# Altium footprint library NSC Audio.PcbLib: 145 footprints (part 1 of 10)
Each footprint in its own frame and in the unit in brackets; x right, y up, seen from the top. Pads: shape width x height; smd on the part's side, far side on the other; paste and mask are expansions set on the pad; w line width, h text height; cw(c..) or ccw(c..) is an arc to the next point about the centre after c.
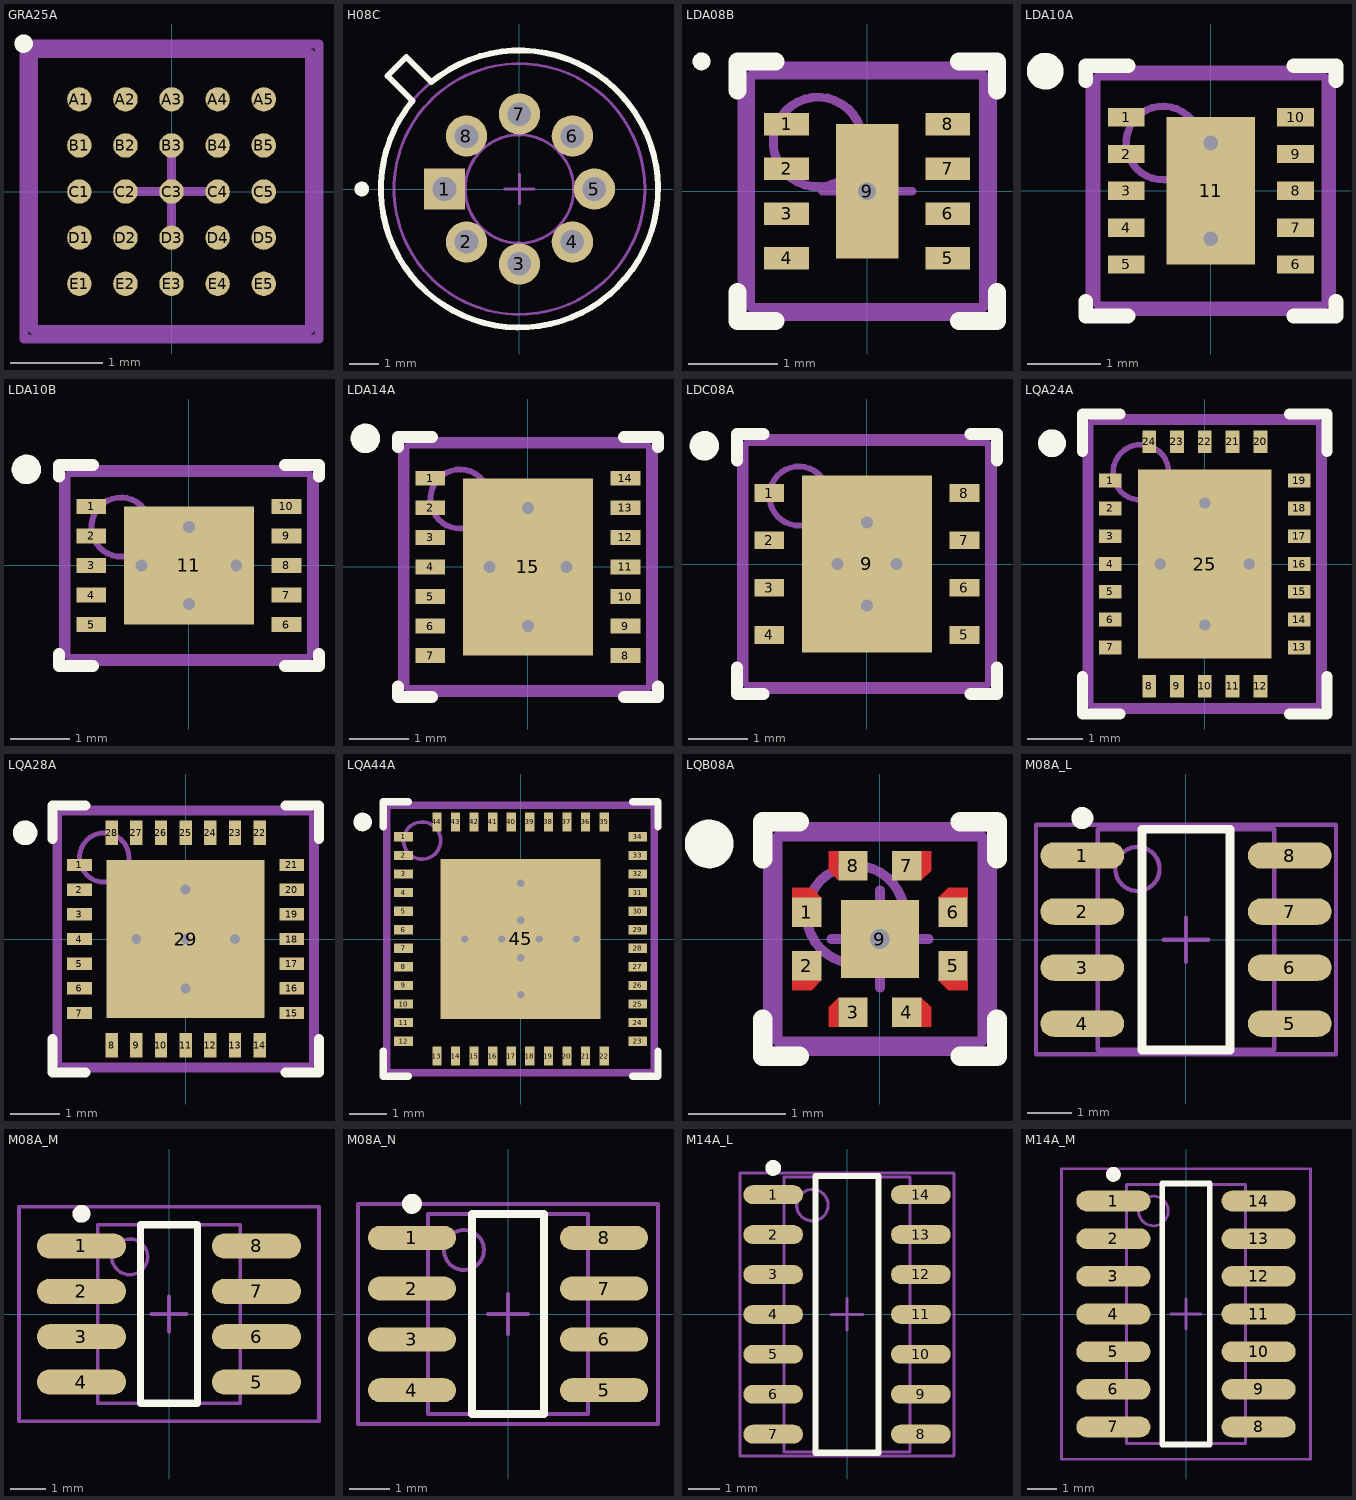
[diagram p0: the footprints below, top view; thin cyan lines are the x and y axes]

## GRA25A [mm] "BGA, 25-Leads, Body 3x3mm, Pitch 0.5mm, NSC Recommended"
height 1.1
pads (25):
  round 0.265 smd paste-0.132 mask+0.05: A1(-1,1) A2(-0.5,1) A3(0,1) A4(0.5,1) A5(1,1) B1(-1,0.5) B2(-0.5,0.5) B3(0,0.5) B4(0.5,0.5) B5(1,0.5) C1(-1,0) C2(-0.5,0) C3(0,0) C4(0.5,0) C5(1,0) D1(-1,-0.5) D2(-0.5,-0.5) D3(0,-0.5) D4(0.5,-0.5) D5(1,-0.5) E1(-1,-1) E2(-0.5,-1) E3(0,-1) E4(0.5,-1) E5(1,-1)
Top Overlay:
  circle w0.1: c-1.605,1.605 r0.05
Top Paste:
  drawing of 225 lines, arcs and shapes, not listed
Mechanical 13:
  lines w0.1: -1.5,-1.5 -1.5,1.5 1.5,1.5 1.5,-1.5 -1.5,-1.5
Mechanical 15:
  lines w0.1: -0.5,0 0.5,0 ; 0,-0.5 0,0.5 ; -1.6,-1.6 -1.6,1.6 1.6,1.6 1.6,-1.6 -1.6,-1.6
3D body: height 1.1, standoff 0, extent -1.5,-1.5 1.5,1.5

## H08C [mm] "Can; 8 Leads; Pin Circle Dia. 5.08 mm; Lead Dia. 0.48 mm (max)"
height 5.56
pads (8):
  rect 1.4x1.4 hole 0.8: 1(-2.54,0)
  round 1.4 hole 0.8: 2(-1.796,-1.796) 3(0,-2.54) 4(1.796,-1.796) 5(2.54,0) 6(1.796,1.796) 7(0,2.54) 8(-1.796,1.796)
Top Overlay:
  circle w0.25: c-5.35,0 r0.125
  lines w0.2: -4.475,3.838 -3.838,4.475 -2.99,3.626 cw(c0,0) -3.626,2.99 -4.475,3.838
Mechanical 13:
  circle w0.1: c0,0 r4.7
  circle w0.1: c0,0 r4.255
  circle w0.1: c0,0 r1.84
Mechanical 15:
  lines w0.1: -0.5,0 0.5,0 ; 0,-0.5 0,0.5
3D body: height 0.38, standoff 0, extent -1.839,-1.839 1.839,1.839
3D body: height 1.91, standoff 0.38, extent -4.699,-4.699 4.699,4.699
3D body: height 5.56, standoff 1.91, extent -4.254,-4.254 4.254,4.254

## LDA08B [mm] "PSON, 8-Leads, Body 2.5x2.5mm, Pitch 0.5mm, NSC Recommended"
height 0.8
pads (9):
  rect 0.5x0.25 smd paste-0.125 mask+0.051: 1(-0.9,0.75) 2(-0.9,0.25) 3(-0.9,-0.25) 4(-0.9,-0.75) 5(0.9,-0.75) 6(0.9,-0.25) 7(0.9,0.25) 8(0.9,0.75)
  rect 0.7x1.5 smd paste-0.35 mask+0.051: 9(0,0)
via 0,0 diameter 0.5 hole 0.2
Top Overlay:
  circle w0.1: c-1.85,1.45 r0.05
  lines w0.2: -1.45,-1.125 -1.45,-1.45 -1.025,-1.45 ; -1.45,1.125 -1.45,1.45 -1.025,1.45 ; 1.025,-1.45 1.45,-1.45 1.45,-1.125 ; 1.025,1.45 1.45,1.45 1.45,1.125
Top Paste:
  rectangle: -0.333,-0.713 0.333,0.713
  rectangle: 0.75,0.625 1.25,0.875
  rectangle: 0.75,0.125 1.25,0.375
  rectangle: 0.75,-0.375 1.25,-0.125
  rectangle: 0.75,-0.875 1.25,-0.625
  region: -0.75,-0.625 -1.25,-0.625 -1.25,-0.875 -0.75,-0.875
  region: -0.75,-0.125 -1.25,-0.125 -1.25,-0.375 -0.75,-0.375
  region: -0.75,0.375 -1.25,0.375 -1.25,0.125 -0.75,0.125
  region: -0.75,0.875 -1.25,0.875 -1.25,0.625 -0.75,0.625
Mechanical 13:
  circle w0.1: c-0.55,0.55 r0.5
  lines w0.1: -1.3,-1.3 -1.3,1.3 1.3,1.3 1.3,-1.3 -1.3,-1.3
Mechanical 15:
  lines w0.1: -0.5,0 0.5,0 ; 0,-0.5 0,0.5 ; -1.4,-1.4 -1.4,1.4 1.4,1.4 1.4,-1.4 -1.4,-1.4
3D body: height 0.8, standoff 0, extent -1.299,-1.299 1.299,1.299

## LDA10A [mm] "PSON, 10-Leads, Body 3x3mm, Pitch 0.5mm, NSC Recommended"
height 0.8
pads (11):
  rect 0.5x0.25 smd paste-0.125 mask+0.051: 1(-1.15,1) 2(-1.15,0.5) 3(-1.15,0) 4(-1.15,-0.5) 5(-1.15,-1) 6(1.15,-1) 7(1.15,-0.5) 8(1.15,0) 9(1.15,0.5) 10(1.15,1)
  rect 1.2x2 smd paste-0.6 mask+0.051: 11(0,0)
via 0,0.65 diameter 0.5 hole 0.2
via 0,-0.65 diameter 0.5 hole 0.2
Top Overlay:
  circle w0.25: c-2.25,1.625 r0.125
  lines w0.2: -1.7,-1.5 -1.7,-1.7 -1.125,-1.7 ; -1.7,1.5 -1.7,1.7 -1.125,1.7 ; 1.125,-1.7 1.7,-1.7 1.7,-1.5 ; 1.125,1.7 1.7,1.7 1.7,1.5
Top Paste:
  rectangle: -0.57,-0.95 0.57,0.95
  rectangle: -1.5,0.875 -1,1.125
  rectangle: -1.5,0.375 -1,0.625
  rectangle: -1.5,-0.125 -1,0.125
  rectangle: -1.5,-0.625 -1,-0.375
  rectangle: -1.5,-1.125 -1,-0.875
  region: 1.5,1.125 1,1.125 1,0.875 1.5,0.875
  region: 1.5,0.625 1,0.625 1,0.375 1.5,0.375
  region: 1.5,0.125 1,0.125 1,-0.125 1.5,-0.125
  region: 1.5,-0.375 1,-0.375 1,-0.625 1.5,-0.625
  region: 1.5,-0.875 1,-0.875 1,-1.125 1.5,-1.125
Mechanical 13:
  circle w0.1: c-0.65,0.65 r0.5
  lines w0.1: -1.55,-1.55 -1.55,1.55 1.55,1.55 1.55,-1.55 -1.55,-1.55
Mechanical 15:
  lines w0.1: -0.5,0 0.5,0 ; 0,-0.5 0,0.5 ; -1.65,-1.65 -1.65,1.65 1.65,1.65 1.65,-1.65 -1.65,-1.65
3D body: height 0.8, standoff 0, extent -1.55,-1.55 1.55,1.55

## LDA10B [mm] "PSON, 10-Leads, Body 3x4mm, Pitch 0.5mm, NSC Recommended"
height 0.8
pads (11):
  rect 0.5x0.25 smd paste-0.125 mask+0.051: 1(-1.65,1) 2(-1.65,0.5) 3(-1.65,0) 4(-1.65,-0.5) 5(-1.65,-1) 6(1.65,-1) 7(1.65,-0.5) 8(1.65,0) 9(1.65,0.5) 10(1.65,1)
  rect 2.2x2 smd paste-1 mask+0.051: 11(0,0)
via 0.8,0 diameter 0.5 hole 0.2
via -0.8,0 diameter 0.5 hole 0.2
via 0,0.65 diameter 0.5 hole 0.2
via 0,-0.65 diameter 0.5 hole 0.2
Top Overlay:
  circle w0.25: c-2.75,1.625 r0.125
  lines w0.2: -2.2,-1.5 -2.2,-1.7 -1.625,-1.7 ; -2.2,1.5 -2.2,1.7 -1.625,1.7 ; 1.625,-1.7 2.2,-1.7 2.2,-1.5 ; 1.625,1.7 2.2,1.7 2.2,1.5
Top Paste:
  region: 2,-0.875 1.5,-0.875 1.5,-1.125 2,-1.125
  region: 2,-0.375 1.5,-0.375 1.5,-0.625 2,-0.625
  region: 2,0.125 1.5,0.125 1.5,-0.125 2,-0.125
  region: 2,0.625 1.5,0.625 1.5,0.375 2,0.375
  region: 2,1.125 1.5,1.125 1.5,0.875 2,0.875
  rectangle: -2,-1.125 -1.5,-0.875
  rectangle: -2,-0.625 -1.5,-0.375
  rectangle: -2,-0.125 -1.5,0.125
  rectangle: -2,0.375 -1.5,0.625
  rectangle: -2,0.875 -1.5,1.125
  rectangle: -0.99,-0.9 0.99,0.9
Mechanical 13:
  circle w0.1: c-1.15,0.65 r0.5
  lines w0.1: -2.05,-1.55 -2.05,1.55 2.05,1.55 2.05,-1.55 -2.05,-1.55
Mechanical 15:
  lines w0.1: -0.5,0 0.5,0 ; 0,-0.5 0,0.5 ; -2.15,-1.65 2.15,-1.65 2.15,1.65 -2.15,1.65 -2.15,-1.65
3D body: height 0.8, standoff 0, extent -2.049,-1.549 2.049,1.549

## LDA14A [mm] "PSON, 14-Leads, Body 4x4mm, Pitch 0.5mm, NSC Recommended"
height 0.8
pads (15):
  rect 0.5x0.25 smd paste-0.125 mask+0.051: 1(-1.65,1.5) 2(-1.65,1) 3(-1.65,0.5) 4(-1.65,0) 5(-1.65,-0.5) 6(-1.65,-1) 7(-1.65,-1.5) 8(1.65,-1.5) 9(1.65,-1) 10(1.65,-0.5) 11(1.65,0) 12(1.65,0.5) 13(1.65,1) 14(1.65,1.5)
  rect 2.2x3 smd paste-1.3 mask+0.051: 15(0,0)
via 0,1 diameter 0.5 hole 0.2
via 0,-1 diameter 0.5 hole 0.2
via -0.65,0 diameter 0.5 hole 0.2
via 0.65,0 diameter 0.5 hole 0.2
Top Overlay:
  circle w0.25: c-2.75,2.175 r0.125
  lines w0.2: -2.2,-2.025 -2.2,-2.2 -1.625,-2.2 ; -2.2,2.025 -2.2,2.2 -1.625,2.2 ; 1.625,-2.2 2.2,-2.2 2.2,-2.025 ; 1.625,2.2 2.2,2.2 2.2,2.025
Top Paste:
  rectangle: -1,0.1 -0.1,1.4
  rectangle: -1,-1.4 -0.1,-0.1
  region: 1,-0.1 0.1,-0.1 0.1,-1.4 1,-1.4
  region: 1,1.4 0.1,1.4 0.1,0.1 1,0.1
  rectangle: 1.5,1.375 2,1.625
  rectangle: 1.5,0.875 2,1.125
  rectangle: 1.5,0.375 2,0.625
  rectangle: 1.5,-0.125 2,0.125
  rectangle: 1.5,-0.625 2,-0.375
  rectangle: 1.5,-1.125 2,-0.875
  rectangle: 1.5,-1.625 2,-1.375
  region: -1.5,-1.375 -2,-1.375 -2,-1.625 -1.5,-1.625
  region: -1.5,-0.875 -2,-0.875 -2,-1.125 -1.5,-1.125
  region: -1.5,-0.375 -2,-0.375 -2,-0.625 -1.5,-0.625
  region: -1.5,0.125 -2,0.125 -2,-0.125 -1.5,-0.125
  region: -1.5,0.625 -2,0.625 -2,0.375 -1.5,0.375
  region: -1.5,1.125 -2,1.125 -2,0.875 -1.5,0.875
  region: -1.5,1.625 -2,1.625 -2,1.375 -1.5,1.375
Mechanical 13:
  circle w0.1: c-1.15,1.15 r0.5
  lines w0.1: -2.05,-2.05 2.05,-2.05 2.05,2.05 -2.05,2.05 -2.05,-2.05
Mechanical 15:
  lines w0.1: -0.5,0 0.5,0 ; 0,-0.5 0,0.5 ; -2.15,-2.15 -2.15,2.15 2.15,2.15 2.15,-2.15 -2.15,-2.15
3D body: height 0.8, standoff 0, extent -2.049,-2.049 2.049,2.049

## LDC08A [mm] "PSON, 8-Leads, Body 4x4mm, Pitch 0.8mm, NSC Recommended"
height 0.8
pads (9):
  rect 0.5x0.3 smd paste-0.15 mask+0.051: 1(-1.65,1.2) 2(-1.65,0.4) 3(-1.65,-0.4) 4(-1.65,-1.2) 5(1.65,-1.2) 6(1.65,-0.4) 7(1.65,0.4) 8(1.65,1.2)
  rect 2.2x3 smd paste-1.5 mask+0.051: 9(0,0)
via -0.5,0 diameter 0.5 hole 0.2
via 0.5,0 diameter 0.5 hole 0.2
via 0,0.7 diameter 0.5 hole 0.2
via 0,-0.7 diameter 0.5 hole 0.2
Top Overlay:
  circle w0.25: c-2.75,2 r0.125
  lines w0.2: -2.2,-1.75 -2.2,-2.2 -1.75,-2.2 ; -2.2,1.75 -2.2,2.2 -1.75,2.2 ; 1.75,-2.2 2.2,-2.2 2.2,-1.75 ; 1.75,2.2 2.2,2.2 2.2,1.75
Top Paste:
  region: 1,1.4 0.15,1.4 0.15,0.15 1,0.15
  rectangle: -1,0.15 -0.15,1.4
  rectangle: -1,-1.4 -0.15,-0.15
  region: 1,-0.15 0.15,-0.15 0.15,-1.4 1,-1.4
  region: 1.5,1.35 1.5,1.05 2,1.05 2,1.35
  region: 1.5,0.55 1.5,0.25 2,0.25 2,0.55
  region: 1.5,-0.25 1.5,-0.55 2,-0.55 2,-0.25
  region: 1.5,-1.05 1.5,-1.35 2,-1.35 2,-1.05
  region: -2,-1.05 -2,-1.35 -1.5,-1.35 -1.5,-1.05
  region: -2,-0.25 -2,-0.55 -1.5,-0.55 -1.5,-0.25
  region: -2,0.55 -2,0.25 -1.5,0.25 -1.5,0.55
  region: -2,1.35 -2,1.05 -1.5,1.05 -1.5,1.35
Mechanical 13:
  circle w0.1: c-1.15,1.15 r0.5
  lines w0.1: -2.05,-2.05 2.05,-2.05 2.05,2.05 -2.05,2.05 -2.05,-2.05
Mechanical 15:
  lines w0.1: -0.5,0 0.5,0 ; 0,-0.5 0,0.5 ; -2.15,-2.15 2.15,-2.15 2.15,2.15 -2.15,2.15 -2.15,-2.15
3D body: height 0.8, standoff 0, extent -2.05,-2.05 2.05,2.05

## LQA24A [mm] "PQFN, 24-Leads, Body 4x5mm, Pitch 0.5mm, NSC Recommended"
height 0.8
pads (25):
  rect 0.4x0.25 smd paste-0.2 mask+0.051: 1(-1.7,1.5) 2(-1.7,1) 3(-1.7,0.5) 4(-1.7,0) 5(-1.7,-0.5) 6(-1.7,-1) 7(-1.7,-1.5) 13(1.7,-1.5) 14(1.7,-1) 15(1.7,-0.5) 16(1.7,0) 17(1.7,0.5) 18(1.7,1) 19(1.7,1.5)
  rect 0.25x0.4 smd paste-0.2 mask+0.051: 8(-1,-2.2) 9(-0.5,-2.2) 10(0,-2.2) 11(0.5,-2.2) 12(1,-2.2) 20(1,2.2) 21(0.5,2.2) 22(0,2.2) 23(-0.5,2.2) 24(-1,2.2)
  rect 2.4x3.4 smd paste-1.2 mask+0.051: 25(0,0)
via 0.8,0 diameter 0.5 hole 0.2
via 0,1.1 diameter 0.5 hole 0.2
via 0,-1.1 diameter 0.5 hole 0.2
via -0.8,0 diameter 0.5 hole 0.2
Top Overlay:
  circle w0.25: c-2.75,2.175 r0.125
  lines w0.2: -2.2,-2.025 -2.2,-2.7 -1.525,-2.7 ; -2.2,2.025 -2.2,2.7 -1.525,2.7 ; 1.525,-2.7 2.2,-2.7 2.2,-2.025 ; 1.525,2.7 2.2,2.7 2.2,2.025
Top Paste:
  rectangle: 0.875,-2.5 1.125,-2.1
  rectangle: -2,-1.625 -1.6,-1.375
  rectangle: -2,-1.125 -1.6,-0.875
  rectangle: -2,-0.625 -1.6,-0.375
  rectangle: -2,-0.125 -1.6,0.125
  rectangle: -2,0.375 -1.6,0.625
  rectangle: -2,0.875 -1.6,1.125
  rectangle: 0.15,-1.6 1.1,-0.15
  region: -0.15,-0.15 -1.1,-0.15 -1.1,-1.6 -0.15,-1.6
  region: -0.15,1.6 -1.1,1.6 -1.1,0.15 -0.15,0.15
  rectangle: 0.15,0.15 1.1,1.6
  rectangle: -2,1.375 -1.6,1.625
  region: 2,1.625 1.6,1.625 1.6,1.375 2,1.375
  region: 2,1.125 1.6,1.125 1.6,0.875 2,0.875
  region: 2,0.625 1.6,0.625 1.6,0.375 2,0.375
  region: 2,0.125 1.6,0.125 1.6,-0.125 2,-0.125
  region: 2,-0.375 1.6,-0.375 1.6,-0.625 2,-0.625
  region: 2,-0.875 1.6,-0.875 1.6,-1.125 2,-1.125
  region: 2,-1.375 1.6,-1.375 1.6,-1.625 2,-1.625
  rectangle: 0.375,-2.5 0.625,-2.1
  rectangle: -0.125,-2.5 0.125,-2.1
  rectangle: -0.625,-2.5 -0.375,-2.1
  region: -0.875,-2.1 -1.125,-2.1 -1.125,-2.5 -0.875,-2.5
  region: -0.875,2.5 -1.125,2.5 -1.125,2.1 -0.875,2.1
  rectangle: -0.625,2.1 -0.375,2.5
  rectangle: -0.125,2.1 0.125,2.5
  rectangle: 0.375,2.1 0.625,2.5
  rectangle: 0.875,2.1 1.125,2.5
Mechanical 13:
  circle w0.1: c-1.15,1.65 r0.5
  lines w0.1: -2.05,-2.55 -2.05,2.55 2.05,2.55 2.05,-2.55 -2.05,-2.55
Mechanical 15:
  lines w0.1: -0.5,0 0.5,0 ; 0,-0.5 0,0.5 ; -2.15,-2.65 -2.15,2.65 2.15,2.65 2.15,-2.65 -2.15,-2.65
3D body: height 0.8, standoff 0, extent -2.05,-2.55 2.05,2.55

## LQA28A [mm] "PQFN, 28-Leads, Body 5x5mm, Pitch 0.5mm, NSC Recommended"
height 0.8
pads (29):
  rect 0.5x0.25 smd paste-0.125 mask+0.051: 1(-2.15,1.5) 2(-2.15,1) 3(-2.15,0.5) 4(-2.15,0) 5(-2.15,-0.5) 6(-2.15,-1) 7(-2.15,-1.5) 15(2.15,-1.5) 16(2.15,-1) 17(2.15,-0.5) 18(2.15,0) 19(2.15,0.5) 20(2.15,1) 21(2.15,1.5)
  rect 0.25x0.5 smd paste-0.125 mask+0.051: 8(-1.5,-2.15) 9(-1,-2.15) 10(-0.5,-2.15) 11(0,-2.15) 12(0.5,-2.15) 13(1,-2.15) 14(1.5,-2.15) 22(1.5,2.15) 23(1,2.15) 24(0.5,2.15) 25(0,2.15) 26(-0.5,2.15) 27(-1,2.15) 28(-1.5,2.15)
  rect 3.2x3.2 smd paste-1.6 mask+0.051: 29(0,0)
via 0,-1 diameter 0.5 hole 0.2
via 1,0 diameter 0.5 hole 0.2
via 0,0 diameter 0.5 hole 0.2
via -1,0 diameter 0.5 hole 0.2
via 0,1 diameter 0.5 hole 0.2
Top Overlay:
  circle w0.25: c-3.25,2.15 r0.125
  lines w0.2: -2.7,-2.025 -2.7,-2.7 -2.025,-2.7 ; -2.7,2.025 -2.7,2.7 -2.025,2.7 ; 2.025,-2.7 2.7,-2.7 2.7,-2.025 ; 2.025,2.7 2.7,2.7 2.7,2.025
Top Paste:
  rectangle: 0.15,-1.5 1.5,-0.15
  region: -0.15,-0.15 -1.5,-0.15 -1.5,-1.5 -0.15,-1.5
  region: -0.15,1.5 -1.5,1.5 -1.5,0.15 -0.15,0.15
  rectangle: 0.15,0.15 1.5,1.5
  region: 1.625,-2.5 1.625,-2 1.375,-2 1.375,-2.5
  region: 1.125,-2.5 1.125,-2 0.875,-2 0.875,-2.5
  region: 0.625,-2.5 0.625,-2 0.375,-2 0.375,-2.5
  region: 0.125,-2.5 0.125,-2 -0.125,-2 -0.125,-2.5
  region: -0.375,-2.5 -0.375,-2 -0.625,-2 -0.625,-2.5
  region: -0.875,-2.5 -0.875,-2 -1.125,-2 -1.125,-2.5
  region: -1.375,-2.5 -1.375,-2 -1.625,-2 -1.625,-2.5
  region: -1.625,2.5 -1.625,2 -1.375,2 -1.375,2.5
  region: -1.125,2.5 -1.125,2 -0.875,2 -0.875,2.5
  region: -0.625,2.5 -0.625,2 -0.375,2 -0.375,2.5
  region: -0.125,2.5 -0.125,2 0.125,2 0.125,2.5
  region: 0.375,2.5 0.375,2 0.625,2 0.625,2.5
  region: 0.875,2.5 0.875,2 1.125,2 1.125,2.5
  region: 1.375,2.5 1.375,2 1.625,2 1.625,2.5
  region: 2.5,1.625 2,1.625 2,1.375 2.5,1.375
  region: 2.5,1.125 2,1.125 2,0.875 2.5,0.875
  region: 2.5,0.625 2,0.625 2,0.375 2.5,0.375
  region: 2.5,0.125 2,0.125 2,-0.125 2.5,-0.125
  region: 2.5,-0.375 2,-0.375 2,-0.625 2.5,-0.625
  region: 2.5,-0.875 2,-0.875 2,-1.125 2.5,-1.125
  region: 2.5,-1.375 2,-1.375 2,-1.625 2.5,-1.625
  rectangle: -2.5,-1.625 -2,-1.375
  rectangle: -2.5,-1.125 -2,-0.875
  rectangle: -2.5,-0.625 -2,-0.375
  rectangle: -2.5,-0.125 -2,0.125
  rectangle: -2.5,0.375 -2,0.625
  rectangle: -2.5,0.875 -2,1.125
  rectangle: -2.5,1.375 -2,1.625
Mechanical 13:
  circle w0.1: c-1.65,1.65 r0.5
  lines w0.1: -2.55,-2.55 2.55,-2.55 2.55,2.55 -2.55,2.55 -2.55,-2.55
Mechanical 15:
  lines w0.1: -0.5,0 0.5,0 ; 0,-0.5 0,0.5 ; -2.65,-2.65 2.65,-2.65 2.65,2.65 -2.65,2.65 -2.65,-2.65
3D body: height 0.8, standoff 0, extent -2.55,-2.55 2.55,2.55

## LQA44A [mm] "PQFN, 44-Leads, Body 7x7mm, Pitch 0.5mm, NSC Recommended"
height 0.8
pads (45):
  rect 0.5x0.25 smd paste-0.125 mask+0.051: 1(-3.15,2.75) 2(-3.15,2.25) 3(-3.15,1.75) 4(-3.15,1.25) 5(-3.15,0.75) 6(-3.15,0.25) 7(-3.15,-0.25) 8(-3.15,-0.75) 9(-3.15,-1.25) 10(-3.15,-1.75) 11(-3.15,-2.25) 12(-3.15,-2.75) 23(3.15,-2.75) 24(3.15,-2.25) 25(3.15,-1.75) 26(3.15,-1.25) 27(3.15,-0.75) 28(3.15,-0.25) 29(3.15,0.25) 30(3.15,0.75) 31(3.15,1.25) 32(3.15,1.75) 33(3.15,2.25) 34(3.15,2.75)
  rect 0.25x0.5 smd paste-0.125 mask+0.051: 13(-2.25,-3.15) 14(-1.75,-3.15) 15(-1.25,-3.15) 16(-0.75,-3.15) 17(-0.25,-3.15) 18(0.25,-3.15) 19(0.75,-3.15) 20(1.25,-3.15) 21(1.75,-3.15) 22(2.25,-3.15) 35(2.25,3.15) 36(1.75,3.15) 37(1.25,3.15) 38(0.75,3.15) 39(0.25,3.15) 40(-0.25,3.15) 41(-0.75,3.15) 42(-1.25,3.15) 43(-1.75,3.15) 44(-2.25,3.15)
  rect 4.3x4.3 smd paste-2.15 mask+0.051: 45(0,0)
via 0,0.5 diameter 0.5 hole 0.2
via 0,-0.5 diameter 0.5 hole 0.2
via 0.5,0 diameter 0.5 hole 0.2
via -0.5,0 diameter 0.5 hole 0.2
via 1.5,0 diameter 0.5 hole 0.2
via 0,1.5 diameter 0.5 hole 0.2
via 0,-1.5 diameter 0.5 hole 0.2
via -1.5,0 diameter 0.5 hole 0.2
Top Overlay:
  circle w0.25: c-4.25,3.15 r0.125
  lines w0.2: -3.7,-3.025 -3.7,-3.7 -3.025,-3.7 ; -3.7,3.025 -3.7,3.7 -3.025,3.7 ; 3.025,-3.7 3.7,-3.7 3.7,-3.025 ; 3.025,3.7 3.7,3.7 3.7,3.025
Top Paste:
  rectangle: 2.125,3 2.375,3.5
  rectangle: 1.625,3 1.875,3.5
  rectangle: 1.125,3 1.375,3.5
  rectangle: 0.625,3 0.875,3.5
  rectangle: 0.125,3 0.375,3.5
  rectangle: -0.375,3 -0.125,3.5
  rectangle: -0.875,3 -0.625,3.5
  rectangle: -1.375,3 -1.125,3.5
  rectangle: -1.875,3 -1.625,3.5
  rectangle: -2.375,3 -2.125,3.5
  region: 3,-2.625 3,-2.875 3.5,-2.875 3.5,-2.625
  region: 3,-2.125 3,-2.375 3.5,-2.375 3.5,-2.125
  region: 3,-1.625 3,-1.875 3.5,-1.875 3.5,-1.625
  region: 3,-1.125 3,-1.375 3.5,-1.375 3.5,-1.125
  region: 3,-0.625 3,-0.875 3.5,-0.875 3.5,-0.625
  region: 3,-0.125 3,-0.375 3.5,-0.375 3.5,-0.125
  region: 3,0.375 3,0.125 3.5,0.125 3.5,0.375
  region: 3,0.875 3,0.625 3.5,0.625 3.5,0.875
  region: 3,1.375 3,1.125 3.5,1.125 3.5,1.375
  region: 3,1.875 3,1.625 3.5,1.625 3.5,1.875
  region: 3,2.375 3,2.125 3.5,2.125 3.5,2.375
  region: -3,2.625 -3,2.875 -3.5,2.875 -3.5,2.625
  region: -3,2.125 -3,2.375 -3.5,2.375 -3.5,2.125
  region: -3,1.625 -3,1.875 -3.5,1.875 -3.5,1.625
  region: -3,1.125 -3,1.375 -3.5,1.375 -3.5,1.125
  region: -3,0.625 -3,0.875 -3.5,0.875 -3.5,0.625
  region: -3,0.125 -3,0.375 -3.5,0.375 -3.5,0.125
  region: -3,-0.375 -3,-0.125 -3.5,-0.125 -3.5,-0.375
  region: -3,-0.875 -3,-0.625 -3.5,-0.625 -3.5,-0.875
  region: -3,-1.375 -3,-1.125 -3.5,-1.125 -3.5,-1.375
  region: -3,-1.875 -3,-1.625 -3.5,-1.625 -3.5,-1.875
  region: -3,-2.375 -3,-2.125 -3.5,-2.125 -3.5,-2.375
  rectangle: 0.1,-2 2,-0.1
  region: -2,-0.1 -2,-2 -0.1,-2 -0.1,-0.1
  region: -0.1,2 -2,2 -2,0.1 -0.1,0.1
  rectangle: 0.1,0.1 2,2
  region: -3.5,-2.625 -3.5,-2.875 -3,-2.875 -3,-2.625
  region: 3,2.875 3,2.625 3.5,2.625 3.5,2.875
  rectangle: -2.375,-3.5 -2.125,-3
  rectangle: -1.875,-3.5 -1.625,-3
  rectangle: -1.375,-3.5 -1.125,-3
  rectangle: -0.875,-3.5 -0.625,-3
  rectangle: -0.375,-3.5 -0.125,-3
  rectangle: 0.125,-3.5 0.375,-3
  rectangle: 0.625,-3.5 0.875,-3
  rectangle: 1.125,-3.5 1.375,-3
  rectangle: 1.625,-3.5 1.875,-3
  rectangle: 2.125,-3.5 2.375,-3
Mechanical 13:
  circle w0.1: c-2.65,2.65 r0.5
  lines w0.1: -3.55,-3.55 -3.55,3.55 3.55,3.55 3.55,-3.55 -3.55,-3.55
Mechanical 15:
  lines w0.1: -0.5,0 0.5,0 ; 0,-0.5 0,0.5 ; -3.65,-3.65 -3.65,3.65 3.65,3.65 3.65,-3.65 -3.65,-3.65
3D body: height 0.8, standoff 0, extent -3.549,-3.549 3.549,3.549

## LQB08A [mm] "PQFN, 8-Leads, Body 2x2mm, Pitch 0.65mm, NSC Recommended"
height 0.8
pads (9):
  rect 0.3x0.3 smd paste-0.15 mask-0.15: 1(-0.75,0.275) 2(-0.75,-0.275) 3(-0.275,-0.75) 4(0.275,-0.75) 5(0.75,-0.275) 6(0.75,0.275) 7(0.275,0.75) 8(-0.275,0.75)
  rect 0.8x0.8 smd paste-0.4 mask+0.051: 9(0,0)
via 0,0 diameter 0.5 hole 0.2
Top Layer:
  region: -0.9,0.425 -0.9,0.525 -0.7,0.525 -0.6,0.425
  region: -0.9,-0.425 -0.9,-0.525 -0.7,-0.525 -0.6,-0.425
  region: 0.425,-0.9 0.525,-0.9 0.525,-0.7 0.425,-0.6
  region: -0.425,-0.9 -0.525,-0.9 -0.525,-0.7 -0.425,-0.6
  region: 0.9,0.425 0.9,0.525 0.7,0.525 0.6,0.425
  region: 0.9,-0.425 0.9,-0.525 0.7,-0.525 0.6,-0.425
  region: -0.425,0.9 -0.525,0.9 -0.525,0.7 -0.425,0.6
  region: 0.425,0.9 0.525,0.9 0.525,0.7 0.425,0.6
Top Overlay:
  circle w0.25: c-1.75,0.975 r0.125
  lines w0.2: -1.2,-0.825 -1.2,-1.2 -0.825,-1.2 ; -1.2,0.825 -1.2,1.2 -0.825,1.2 ; 0.825,-1.2 1.2,-1.2 1.2,-0.825 ; 0.825,1.2 1.2,1.2 1.2,0.825
Top Paste:
  rectangle: -0.35,-0.35 0.35,0.35
  region: -1,0.125 -1,0.525 -0.8,0.525 -0.7,0.425 -0.7,0.125
  region: -1,-0.125 -1,-0.525 -0.8,-0.525 -0.7,-0.425 -0.7,-0.125
  region: 0.125,-1 0.525,-1 0.525,-0.8 0.425,-0.7 0.125,-0.7
  region: -0.125,-1 -0.525,-1 -0.525,-0.8 -0.425,-0.7 -0.125,-0.7
  region: 1,0.125 1,0.525 0.8,0.525 0.7,0.425 0.7,0.125
  region: 1,-0.125 1,-0.525 0.8,-0.525 0.7,-0.425 0.7,-0.125
  region: -0.125,1 -0.525,1 -0.525,0.8 -0.425,0.7 -0.125,0.7
  region: 0.125,1 0.525,1 0.525,0.8 0.425,0.7 0.125,0.7
Top Solder:
  region: -0.95,0.575 -0.65,0.575 -0.55,0.475 -0.55,0.075 -0.95,0.075
  region: -0.95,-0.575 -0.65,-0.575 -0.55,-0.475 -0.55,-0.075 -0.95,-0.075
  region: 0.575,-0.95 0.575,-0.65 0.475,-0.55 0.075,-0.55 0.075,-0.95
  region: -0.575,-0.95 -0.575,-0.65 -0.475,-0.55 -0.075,-0.55 -0.075,-0.95
  region: 0.95,0.575 0.65,0.575 0.55,0.475 0.55,0.075 0.95,0.075
  region: 0.95,-0.575 0.65,-0.575 0.55,-0.475 0.55,-0.075 0.95,-0.075
  region: -0.575,0.95 -0.575,0.65 -0.475,0.55 -0.075,0.55 -0.075,0.95
  region: 0.575,0.95 0.575,0.65 0.475,0.55 0.075,0.55 0.075,0.95
Mechanical 13:
  circle w0.1: c-0.25,0.25 r0.5
  lines w0.1: -1.05,-1.05 -1.05,1.05 1.05,1.05 1.05,-1.05 -1.05,-1.05
Mechanical 15:
  lines w0.1: -0.5,0 0.5,0 ; 0,-0.5 0,0.5 ; -1.15,-1.15 1.15,-1.15 1.15,1.15 -1.15,1.15 -1.15,-1.15
3D body: height 0.8, standoff 0, extent -1.049,-1.049 1.049,1.049

## M08A_L [mm] "SOIC, 8-Leads, Body 4.9x3.9mm, Pitch 1.27mm, IPC High Density"
height 1.75
pads (8):
  oval 1.9x0.6 smd: 1(-2.35,1.905) 2(-2.35,0.635) 3(-2.35,-0.635) 4(-2.35,-1.905) 5(2.35,-1.905) 6(2.35,-0.635) 7(2.35,0.635) 8(2.35,1.905)
Top Overlay:
  circle w0.25: c-2.35,2.755 r0.125
  lines w0.2: -1,-2.5 1,-2.5 1,2.5 -1,2.5 -1,-2.5
Mechanical 13:
  circle w0.1: c-1.1,1.6 r0.5
  lines w0.1: -2,-2.5 2,-2.5 2,2.5 -2,2.5 -2,-2.5
Mechanical 15:
  lines w0.1: -0.5,0 0.5,0 ; 0,-0.5 0,0.5 ; -3.4,-2.6 3.4,-2.6 3.4,2.6 -3.4,2.6 -3.4,-2.6
3D body: height 1.75, standoff 0, extent -2,-2.5 2,2.5

## M08A_M [mm] "SOIC, 8-Leads, Body 4.9x3.9mm, Pitch 1.27mm, IPC Low Density"
height 1.75
pads (8):
  oval 2.5x0.7 smd: 1(-2.45,1.905) 2(-2.45,0.635) 3(-2.45,-0.635) 4(-2.45,-1.905) 5(2.45,-1.905) 6(2.45,-0.635) 7(2.45,0.635) 8(2.45,1.905)
Top Overlay:
  circle w0.25: c-2.45,2.805 r0.125
  lines w0.2: -0.8,-2.5 -0.8,2.5 0.8,2.5 0.8,-2.5 -0.8,-2.5
Mechanical 13:
  circle w0.1: c-1.1,1.6 r0.5
  lines w0.1: -2,-2.5 -2,2.5 2,2.5 2,-2.5 -2,-2.5
Mechanical 15:
  lines w0.1: -0.5,0 0.5,0 ; 0,-0.5 0,0.5 ; -4.2,-3 -4.2,3 4.2,3 4.2,-3 -4.2,-3
3D body: height 1.75, standoff 0, extent -2,-2.5 2,2.5

## M08A_N [mm] "SOIC, 8-Leads, Body 4.9x3.9mm, Pitch 1.27mm, IPC Medium Density"
height 1.75
pads (8):
  oval 2.2x0.6 smd: 1(-2.4,1.905) 2(-2.4,0.635) 3(-2.4,-0.635) 4(-2.4,-1.905) 5(2.4,-1.905) 6(2.4,-0.635) 7(2.4,0.635) 8(2.4,1.905)
Top Overlay:
  circle w0.25: c-2.4,2.755 r0.125
  lines w0.2: -0.9,-2.5 -0.9,2.5 0.9,2.5 0.9,-2.5 -0.9,-2.5
Mechanical 13:
  circle w0.1: c-1.1,1.6 r0.5
  lines w0.1: -2,-2.5 -2,2.5 2,2.5 2,-2.5 -2,-2.5
Mechanical 15:
  lines w0.1: -0.5,0 0.5,0 ; 0,-0.5 0,0.5 ; -3.75,-2.75 -3.75,2.75 3.75,2.75 3.75,-2.75 -3.75,-2.75
3D body: height 1.75, standoff 0, extent -2,-2.5 2,2.5

## M14A_L [mm] "SOIC, 14-Leads, Body 8.6x3.9mm, Pitch 1.27mm, IPC High Density"
height 1.75
pads (14):
  oval 1.9x0.6 smd: 1(-2.35,3.81) 2(-2.35,2.54) 3(-2.35,1.27) 4(-2.35,0) 5(-2.35,-1.27) 6(-2.35,-2.54) 7(-2.35,-3.81) 8(2.35,-3.81) 9(2.35,-2.54) 10(2.35,-1.27) 11(2.35,0) 12(2.35,1.27) 13(2.35,2.54) 14(2.35,3.81)
Top Overlay:
  circle w0.25: c-2.35,4.66 r0.125
  lines w0.2: -1,-4.4 -1,4.4 1,4.4 1,-4.4 -1,-4.4
Mechanical 13:
  circle w0.1: c-1.1,3.475 r0.5
  lines w0.1: -2,-4.375 -2,4.375 2,4.375 2,-4.375 -2,-4.375
Mechanical 15:
  lines w0.1: -0.5,0 0.5,0 ; 0,-0.5 0,0.5 ; -3.4,-4.5 -3.4,4.5 3.4,4.5 3.4,-4.5 -3.4,-4.5
3D body: height 1.75, standoff 0, extent -2,-4.375 2,4.375

## M14A_M [mm] "SOIC, 14-Leads, Body 8.6x3.9mm, Pitch 1.27mm, IPC Low Density"
height 1.75
pads (14):
  oval 2.5x0.7 smd: 1(-2.45,3.81) 2(-2.45,2.54) 3(-2.45,1.27) 4(-2.45,0) 5(-2.45,-1.27) 6(-2.45,-2.54) 7(-2.45,-3.81) 8(2.45,-3.81) 9(2.45,-2.54) 10(2.45,-1.27) 11(2.45,0) 12(2.45,1.27) 13(2.45,2.54) 14(2.45,3.81)
Top Overlay:
  circle w0.25: c-2.45,4.71 r0.125
  lines w0.2: -0.8,-4.4 -0.8,4.4 0.8,4.4 0.8,-4.4 -0.8,-4.4
Mechanical 13:
  circle w0.1: c-1.1,3.475 r0.5
  lines w0.1: -2,-4.375 -2,4.375 2,4.375 2,-4.375 -2,-4.375
Mechanical 15:
  lines w0.1: -0.5,0 0.5,0 ; 0,-0.5 0,0.5 ; -4.2,-4.9 -4.2,4.9 4.2,4.9 4.2,-4.9 -4.2,-4.9
3D body: height 1.75, standoff 0, extent -2,-4.375 2,4.375